# EAGLE library part ABPDANN060PGAA5 (library ABPDANN060PGAA5_press_sens)
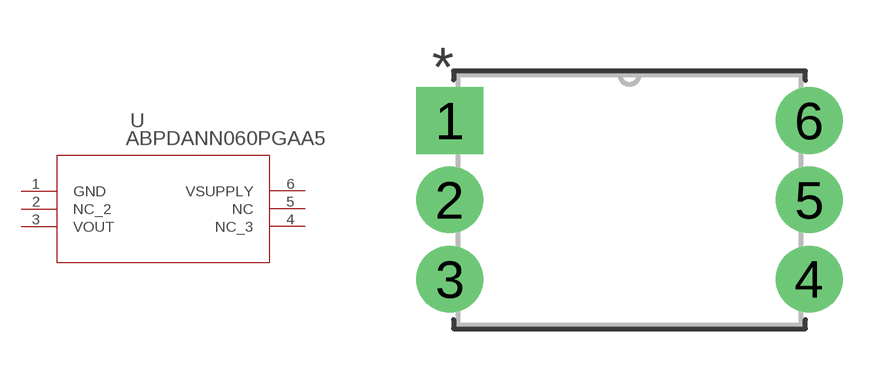
[diagram p0: symbol with the pads of DIP6_DIP-AN_HNW; footprint DIP6_DIP-AN_HNW]

Designator prefix U

## ABPDANN060PGAA5DIP6_DIP-AN_HNW (Copyright: Copyright (C) 2026 Ultra Librarian. All rights reserved.; Manufacturer_Name: Honeywell; Manufacturer_Part_Number: ABPDANN060PGAA5; Type: Pressure Sensors, Transducers)  [DIP6_DIP-AN_HNW]
1  GND  pas
2  NC_2  nc
3  VOUT  out
4  NC_3  nc
5  NC  nc
6  VSUPPLY  pwr

## Footprint DIP6_DIP-AN_HNW (pad centres in mm)
drill 1.422 pad 1.93 square: 1 0,0
drill 1.422 pad 1.93 round: 2 0,-2.54; 3 0,-5.08; 4 11.5,-5.08; 5 11.5,-2.54; 6 11.5,0